# Altium schematic symbol library 0.1uFCAP.SCHLIB: 1 symbol
Pins are listed as number, name and electrical type; pins without a type are passive.

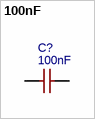
[diagram p0: symbol 100nF]

## 100nF
designator C?
Manufacturer: FH(风华); Manufacturer Part: 0805B104J500NT; nameAlias: Value; Supplier: LCSC; Supplier Part: C29926; JLCPCB Part Class: Extended Part; spicePre: C; spiceSymbolName: 0805B104J500NT
footprint C0805
pins: 1, 2